# EAGLE library part SCREWTERM_6P (library ME507)
PHOENIX CONNECTOR
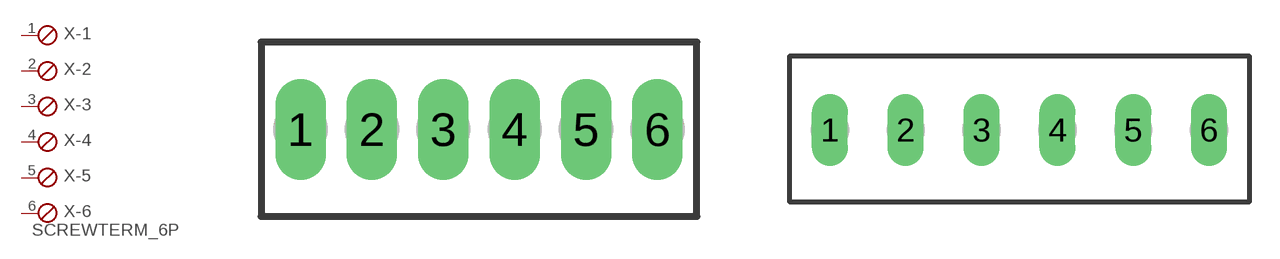
[diagram p0: symbol with the pads of 6POL254; footprints 6POL254, 6POL381]

Designator prefix X; gates -1=SKB -2=SKB -3=SKB -4=SKB -5=SKB -6=SKBV

## SCREWTERM_6P_254  [6POL254]
1  -1:1  pas
2  -2:1  pas
3  -3:1  pas
4  -4:1  pas
5  -5:1  pas
6  -6:1  pas

## SCREWTERM_6P_381  [6POL381]
Pads as for 6POL254

## SCREWTERM_6P_508  [6POL508]
Pads as for 6POL254

## Footprint 6POL254 (pad centres in mm)
PHOENIX CONNECTOR
drill 1.2 pad 1.778 long: 1 -6.35,0; 2 -3.81,0; 3 -1.27,0; 4 1.27,0; 5 3.81,0; 6 6.35,0

## Footprint 6POL381 (pad centres in mm)
PHOENIX CONNECTOR
drill 1.2 pad 1.778 long: 1 -9.525,0; 2 -5.715,0; 3 -1.905,0; 4 1.905,0; 5 5.715,0; 6 9.525,0

## Footprint 6POL508 (pad centres in mm)
PHOENIX CONNECTOR
drill 1.4 long: 1 -12.7,0; 2 -7.62,0; 3 -2.54,0; 4 2.54,0; 5 7.62,0; 6 12.7,0